# Altium footprint library Pattern No3d 20090609.PcbLib: 323 footprints (part 7 of 22)
Each footprint in its own frame and in the unit in brackets; x right, y up, seen from the top. Pads: shape width x height; smd on the part's side, far side on the other; paste and mask are expansions set on the pad; w line width, h text height; cw(c..) or ccw(c..) is an arc to the next point about the centre after c.
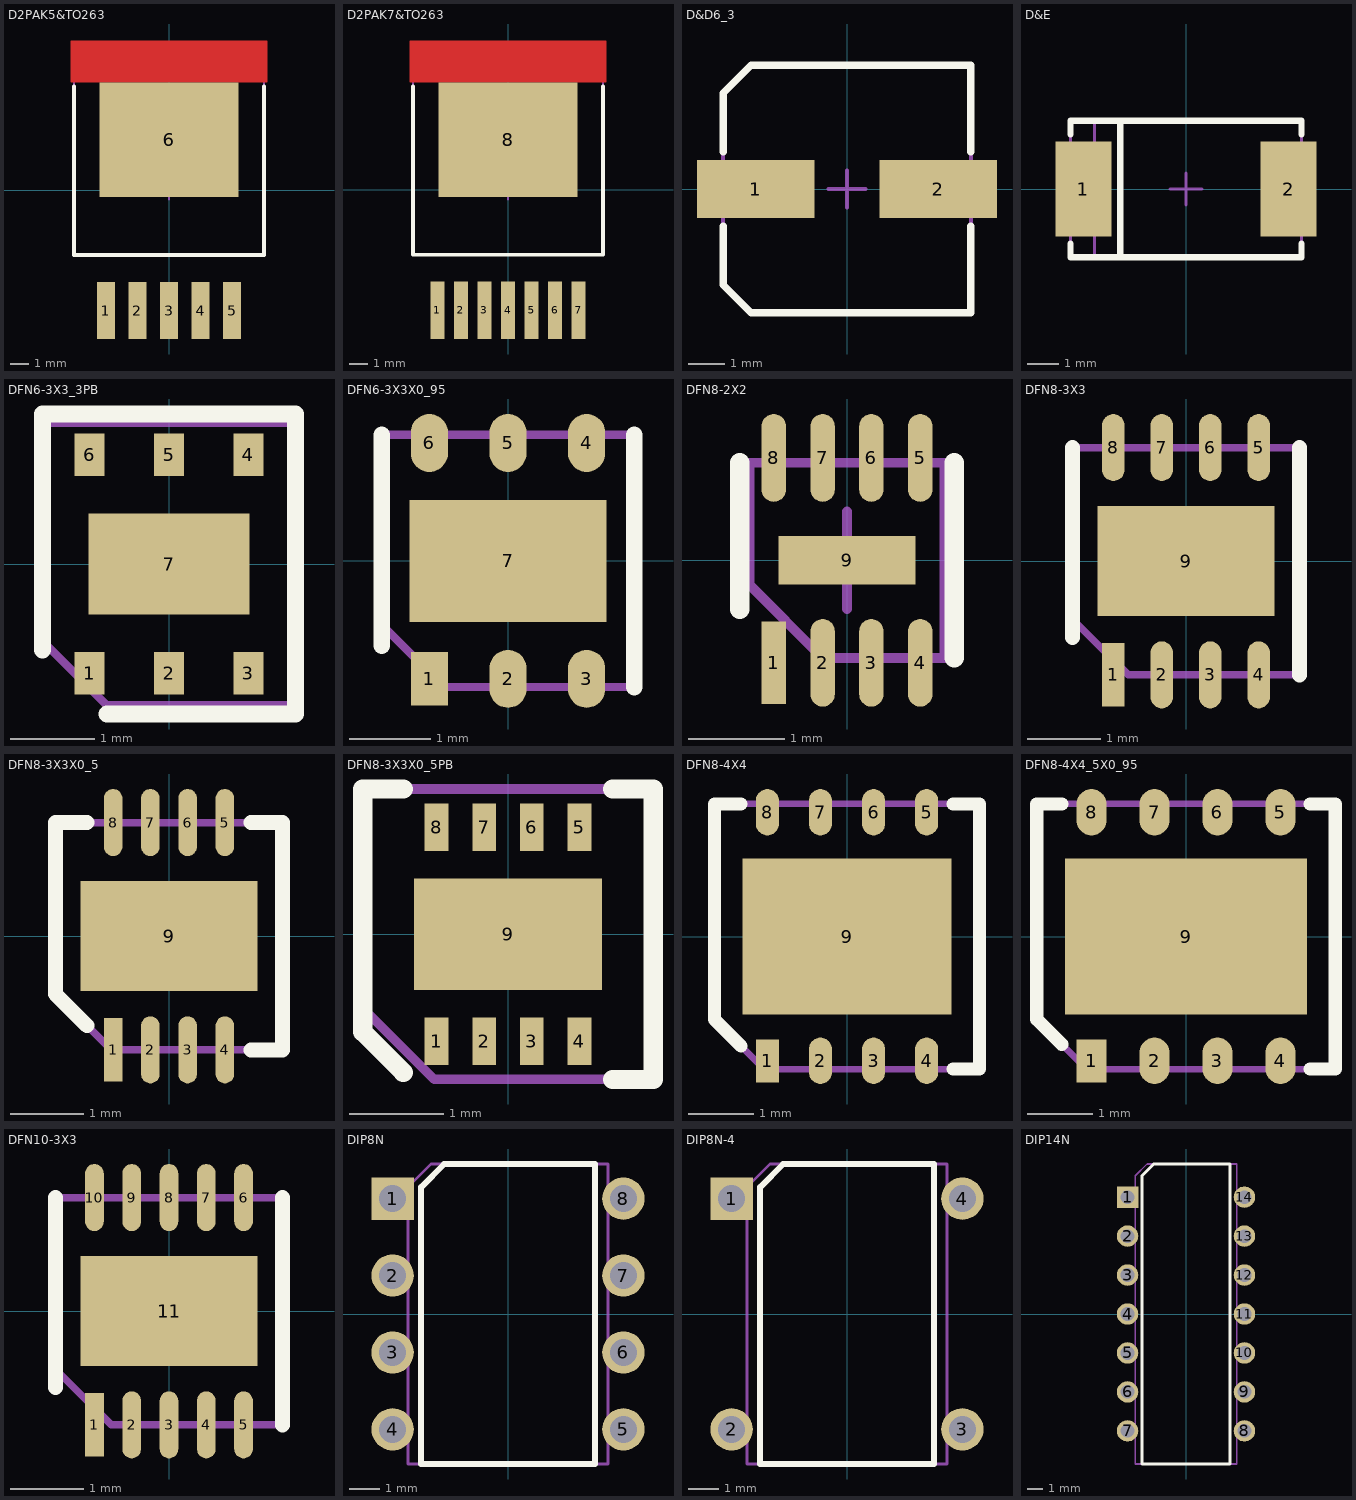
[diagram p6: the footprints below, top view; thin cyan lines are the x and y axes]

## D2PAK5&TO263 [mil] "http://www.nxp.com/acrobat_download/packages/SOT426.pdf"
pads (6):
  rect 39x121 smd paste-1000 mask+4: 1(-134,-256) 2(-67,-256) 3(0,-256) 4(67,-256) 5(134,-256)
  rect 296x244 smd paste-1000 mask-1000: 6(0,107)
Top Layer:
  region: 209,229 209,317 -209,317 -209,229
Top Overlay:
  lines w8: -202,220 -202,-138 202,-138 202,220
Top Paste:
  region: 116.5,-259.5 116.5,-314.5 151.5,-314.5 151.5,-259.5
  region: 116.5,-197.5 116.5,-252.5 151.5,-252.5 151.5,-197.5
  region: 49.5,-259.5 49.5,-314.5 84.5,-314.5 84.5,-259.5
  region: 49.5,-197.5 49.5,-252.5 84.5,-252.5 84.5,-197.5
  region: -84.5,-259.5 -84.5,-314.5 -49.5,-314.5 -49.5,-259.5
  region: -84.5,-197.5 -84.5,-252.5 -49.5,-252.5 -49.5,-197.5
  region: -151.5,-259.5 -151.5,-314.5 -116.5,-314.5 -116.5,-259.5
  region: -151.5,-197.5 -151.5,-252.5 -116.5,-252.5 -116.5,-197.5
  region: -17.5,-197.5 -17.5,-252.5 17.5,-252.5 17.5,-197.5
  region: -17.5,-259.5 -17.5,-314.5 17.5,-314.5 17.5,-259.5
  region: 135,231 135,315 75,315 75,231
  region: 65,231 65,315 5,315 5,231
  region: -5,231 -5,315 -65,315 -65,231
  region: -75,231 -75,315 -135,315 -135,231
  region: -145,231 -145,315 -205,315 -205,231
  region: 205,231 205,315 145,315 145,231
  region: -79,170 -143,170 -143,110 -79,110
  region: -5,170 -69,170 -69,110 -5,110
  region: 69,170 5,170 5,110 69,110
  region: 143,170 79,170 79,110 143,110
  region: 143,49 79,49 79,-11 143,-11
  region: 69,49 5,49 5,-11 69,-11
  region: -5,49 -69,49 -69,-11 -5,-11
  region: -79,49 -143,49 -143,-11 -79,-11
Top Solder:
  region: 152,-19 152,225 213,225 213,321 -213,321 -213,225 -152,225 -152,-19
Mechanical 1:
  lines w4: -202,-138 -202,240 202,240 202,-138 -202,-138
Mechanical 15:
  lines w4: -20,0 20,0 ; 0,-20 0,20

## D2PAK7&TO263 [mil] "http://www.nxp.com/acrobat_download/packages/SOT427.pdf"
pads (8):
  rect 30x122 smd paste-1000 mask+4: 1(-150,-256) 2(-100,-256) 3(-50,-256) 4(0,-256) 5(50,-256) 6(100,-256) 7(150,-256)
  rect 296x244 smd paste-1000 mask-1000: 8(0,107)
Top Layer:
  region: 209,229 209,317 -209,317 -209,229
Top Overlay:
  lines w8: -202,220 -202,-138 202,-138 202,220
Top Paste:
  region: 137,-259 137,-315 163,-315 163,-259
  region: 137,-197 137,-253 163,-253 163,-197
  region: 87,-259 87,-315 113,-315 113,-259
  region: 87,-197 87,-253 113,-253 113,-197
  region: 37,-259 37,-315 63,-315 63,-259
  region: 37,-197 37,-253 63,-253 63,-197
  region: -13,-259 -13,-315 13,-315 13,-259
  region: -13,-197 -13,-253 13,-253 13,-197
  region: -63,-259 -63,-315 -37,-315 -37,-259
  region: -63,-197 -63,-253 -37,-253 -37,-197
  region: -113,-259 -113,-315 -87,-315 -87,-259
  region: -113,-197 -113,-253 -87,-253 -87,-197
  region: -163,-197 -163,-253 -137,-253 -137,-197
  region: -79,49 -143,49 -143,-11 -79,-11
  region: -5,49 -69,49 -69,-11 -5,-11
  region: 69,49 5,49 5,-11 69,-11
  region: 143,49 79,49 79,-11 143,-11
  region: 143,170 79,170 79,110 143,110
  region: 69,170 5,170 5,110 69,110
  region: -5,170 -69,170 -69,110 -5,110
  region: -79,170 -143,170 -143,110 -79,110
  region: 205,231 205,315 145,315 145,231
  region: -145,231 -145,315 -205,315 -205,231
  region: -75,231 -75,315 -135,315 -135,231
  region: -5,231 -5,315 -65,315 -65,231
  region: 65,231 65,315 5,315 5,231
  region: 135,231 135,315 75,315 75,231
  region: -163,-259 -163,-315 -137,-315 -137,-259
Top Solder:
  region: 152,-19 152,225 213,225 213,321 -213,321 -213,225 -152,225 -152,-19
Mechanical 1:
  lines w4: -202,-138 -202,240 202,240 202,-138 -202,-138
Mechanical 15:
  lines w4: -20,0 20,0 ; 0,-20 0,20

## D&D6_3 [mil] "http://www.panasonic.com/industrial/components/pdf/pic_vs_series.pdf (Size D)"
pads (2):
  rect 126x62 smd mask+4: 1(-98,0) 2(98,0)
Top Overlay:
  lines w8: -133,-40 -133,-103 -103,-133 133,-133 133,-40 ; -133,40 -133,103 -103,133 133,133 133,40
Mechanical 1:
  lines w4: -133,-103 -133,103 -103,133 133,133 133,-133 -103,-133 -133,-103
Mechanical 15:
  lines w4: -20,0 20,0 ; 0,-20 0,20

## D&E [mil] "http://www.rohm.com/products/passive/ta_capacitor/pdf/catalog.pdf (Case D, E)"
pads (2):
  rect 70x118 smd mask+4: 1(-128,0) 2(128,0)
Top Overlay:
  lines w8: -144,-68 -144,-85 144,-85 144,-68 ; -144,68 -144,85 144,85 144,68 ; -82,-85 -82,85
Mechanical 1:
  lines w4: -114,-85 -114,85 ; -144,-85 -144,85 144,85 144,-85 -144,-85
Mechanical 15:
  lines w4: -20,0 20,0 ; 0,-20 0,20

## DFN6-3X3_3PB [mil] "http://www.national.com/packaging/mkt/lde06a.pdf"
pads (7):
  rect 14x20 smd mask-1000: 1(-37,-51)
  rect 14x20 smd mask+4: 2(0,-51) 3(37,-51) 4(37,51) 5(0,51) 6(-37,51)
  rect 75x47 smd paste-1000 mask+4: 7(0,0)
Top Overlay:
  lines w8: -59,-40 -59,70 59,70 59,-70 -29,-70
Top Paste:
  region: -17,-16 -17,-4 -33,-4 -33,-16
  region: -17,16 -33,16 -33,4 -17,4
  region: 8,-4 -8,-4 -8,-16 8,-16
  region: 33,-4 17,-4 17,-16 33,-16
  region: 33,16 17,16 17,4 33,4
  region: 8,16 -8,16 -8,4 8,4
Top Solder:
  region: -26,-65 -26,-37 -54,-37 -54,-65
Mechanical 1:
  lines w4: -59,-36 -29,-66 59,-66 59,66 -59,66 -59,-36
Mechanical 15:
  lines w4: -20,0 20,0 ; 0,-20 0,20

## DFN6-3X3X0_95 [mil] "http://www.national.com/packaging/mkt/sde06a.pdf"
pads (7):
  rect 18x26 smd mask-1000: 1(-38,-57)
  oval 18x28 smd mask+4: 2(0,-57) 3(38,-57) 4(38,57) 5(0,57) 6(-38,57)
  rect 95x59 smd paste-1000 mask-1000: 7(0,0)
Top Overlay:
  lines w8: -61,-41 -61,61 ; 61,-61 61,61
Top Paste:
  region: -6,-13 -6,13 -28,13 -28,-13
  region: 28,-13 28,13 6,13 6,-13
Top Solder:
  region: -25,-74 -25,-40 -51,-40 -51,-74
  region: 52,-32 52,32 -52,32 -52,-32
Mechanical 1:
  lines w4: -61,-31 -61,61 61,61 61,-61 -31,-61 -61,-31
Mechanical 15:
  lines w4: -20,0 20,0 ; 0,-20 0,20

## DFN8-2X2 [mil] "http://www.onsemi.com/pub/Collateral/506AA.PDF"
pads (9):
  rect 10x34 smd mask-1000: 1(-30,-42)
  oval 10x36 smd mask-1000: 2(-10,-42) 3(10,-42) 4(30,-42) 5(30,42) 6(10,42) 7(-10,42) 8(-30,42)
  rect 56x20 smd paste-1000 mask-1000: 9(0,0)
Top Overlay:
  lines w8: -44,-20 -44,40 ; 44,-40 44,40
Top Paste:
  region: 10,8 -10,8 -10,-8 10,-8
Top Solder:
  region: 32,-13 32,13 -32,13 -32,-13
  region: -23,-63 -23,-21 -39,-21 -39,-63
  lines w14: -10,-57 -10,-27 ; -10,27 -10,57 ; 10,-57 10,-27 ; 10,27 10,57
  lines w16: -31,28 -31,56 ; 31,-56 31,-28 ; 31,28 31,56
Mechanical 1:
  lines w4: -40,-10 -10,-40 40,-40 40,40 -40,40 -40,-10
Mechanical 15:
  lines w4: -20,0 20,0 ; 0,-20 0,20

## DFN8-3X3 [mil] "http://focus.ti.com/lit/ml/mpds118f/mpds118f.pdf"
pads (9):
  rect 12x34 smd mask-1000: 1(-39,-61)
  oval 12x36 smd mask-1000: 2(-13,-61) 3(13,-61) 4(39,-61) 5(39,61) 6(13,61) 7(-13,61) 8(-39,61)
  rect 95x59 smd paste-1000 mask-1000: 9(0,0)
Top Overlay:
  lines w8: -61,-41 -61,61 ; 61,-61 61,61
Top Paste:
  region: -6,-13 -6,13 -28,13 -28,-13
  region: 28,-13 28,13 6,13 6,-13
Top Solder:
  region: 52,-32 52,32 -52,32 -52,-32
  region: -29,-82 -29,-40 -49,-40 -49,-82
  lines w18: -39,48 -39,74 ; -13,-74 -13,-48 ; -13,48 -13,74 ; 13,-74 13,-48 ; 13,48 13,74 ; 39,-74 39,-48 ; 39,48 39,74
Mechanical 1:
  lines w4: -61,-31 -61,61 61,61 61,-61 -31,-61 -61,-31
Mechanical 15:
  lines w4: -20,0 20,0 ; 0,-20 0,20

## DFN8-3X3X0_5 [mil] "http://www.onsemi.com/pub/Collateral/506BJ.PDF"
pads (9):
  rect 10x34 smd mask-1000: 1(-30,-61)
  oval 10x36 smd mask-1000: 2(-10,-61) 3(10,-61) 4(30,-61) 5(30,61) 6(10,61) 7(-10,61) 8(-30,61)
  rect 95x59 smd paste-1000 mask-1000: 9(0,0)
Top Overlay:
  lines w8: -44,-48 -61,-31 -61,61 -44,61 ; 44,-61 61,-61 61,61 44,61
Top Paste:
  region: 28,-13 28,13 6,13 6,-13
  region: -6,-13 -6,13 -28,13 -28,-13
Top Solder:
  region: -23,-82 -23,-40 -39,-40 -39,-82
  region: 52,-32 52,32 -52,32 -52,-32
  lines w14: -10,-76 -10,-46 ; -10,46 -10,76 ; 10,-76 10,-46 ; 10,46 10,76
  lines w16: -31,47 -31,75 ; 31,-75 31,-47 ; 31,47 31,75
Mechanical 1:
  lines w4: -61,-31 -31,-61 61,-61 61,61 -61,61 -61,-31
Mechanical 15:
  lines w4: -20,0 20,0 ; 0,-20 0,20

## DFN8-3X3X0_5PB [mil] "http://www.national.com/packaging/mkt/lda08a.pdf"
pads (9):
  rect 10x20 smd mask-1000: 1(-30,-45) 2(-10,-45) 3(10,-45) 4(30,-45) 5(30,45) 6(10,45) 7(-10,45) 8(-30,45)
  rect 79x47 smd paste-1000 mask-1000: 9(0,0)
Top Overlay:
  lines w8: -44,-58 -61,-41 -61,61 -44,61 ; 44,-61 61,-61 61,61 44,61
Top Paste:
  region: 8,16 -8,16 -8,4 8,4
  region: 33,16 17,16 17,4 33,4
  region: 33,-4 17,-4 17,-16 33,-16
  region: 8,-4 -8,-4 -8,-16 8,-16
  region: -17,16 -33,16 -33,4 -17,4
  region: -17,-16 -17,-4 -33,-4 -33,-16
Top Solder:
  region: -17,59 -17,33 -3,33 -3,59
  region: 3,59 3,33 17,33 17,59
  region: 17,-59 17,-33 3,-33 3,-59
  region: -23,33 -23,59 -39,59 -39,33
  region: 39,33 39,59 23,59 23,33
  region: 44,-25 44,25 -44,25 -44,-25
  region: 39,-59 39,-33 23,-33 23,-59
  region: -3,-59 -3,-33 -17,-33 -17,-59
  region: -23,-65 -23,-33 -39,-33 -39,-65
Mechanical 1:
  lines w4: -61,-31 -31,-61 61,-61 61,61 -61,61 -61,-31
Mechanical 15:
  lines w4: -20,0 20,0 ; 0,-20 0,20

## DFN8-4X4 [mil] "http://www.onsemi.com/pub/Collateral/488AF.PDF"
pads (9):
  rect 14x26 smd mask-1000: 1(-48,-75)
  oval 14x28 smd mask+4: 2(-16,-75) 3(16,-75) 4(48,-75) 5(48,75) 6(16,75) 7(-16,75) 8(-48,75)
  rect 126x94 smd paste-1000 mask-1000: 9(0,0)
Top Overlay:
  lines w8: -64,-66 -80,-50 -80,80 -64,80 ; 64,-80 80,-80 80,80 64,80
Top Paste:
  region: -8,-22 -8,22 -36,22 -36,-22
  region: 36,-22 36,22 8,22 8,-22
Top Solder:
  region: -37,-92 -37,-58 -59,-58 -59,-92
  region: 67,-49 67,49 -67,49 -67,-49
Mechanical 1:
  lines w4: -80,-50 -50,-80 80,-80 80,80 -80,80 -80,-50
Mechanical 15:
  lines w4: -20,0 20,0 ; 0,-20 0,20

## DFN8-4X4_5X0_95 [mil] "http://www.ramtron.com/files/datasheets/FM24CL64ds_r3.3.pdf (8-pin TDFN)"
pads (9):
  rect 18x26 smd mask-1000: 1(-57,-75)
  oval 18x28 smd mask+4: 2(-19,-75) 3(19,-75) 4(57,-75) 5(57,75) 6(19,75) 7(-19,75) 8(-57,75)
  rect 146x94 smd paste-1000 mask-1000: 9(0,0)
Top Overlay:
  lines w8: -75,-65 -90,-50 -90,80 -75,80 ; 75,-80 90,-80 90,80 75,80
Top Paste:
  region: -23,6 -23,28 -45,28 -45,6
  region: 45,6 45,28 23,28 23,6
  region: 11,6 11,28 -11,28 -11,6
  region: 45,-28 45,-6 23,-6 23,-28
  region: -23,-28 -23,-6 -45,-6 -45,-28
  region: 11,-28 11,-6 -11,-6 -11,-28
Top Solder:
  region: -44,-92 -44,-58 -70,-58 -70,-92
  region: 77,-49 77,49 -77,49 -77,-49
Mechanical 1:
  lines w4: -90,-50 -60,-80 90,-80 90,80 -90,80 -90,-50
Mechanical 15:
  lines w4: -20,0 20,0 ; 0,-20 0,20

## DFN10-3X3 [mil] "http://www.nxp.com/acrobat_download/packages/SOT650-1.pdf"
pads (11):
  rect 10x34 smd mask-1000: 1(-40,-61)
  oval 10x36 smd mask-1000: 2(-20,-61) 3(0,-61) 4(20,-61) 5(40,-61) 6(40,61) 7(20,61) 8(0,61) 9(-20,61) 10(-40,61)
  rect 95x59 smd paste-1000 mask-1000: 11(0,0)
Top Overlay:
  lines w8: -61,-41 -61,61 ; 61,-61 61,61
Top Paste:
  region: 28,-13 28,13 6,13 6,-13
  region: -6,-13 -6,13 -28,13 -28,-13
Top Solder:
  region: 52,-32 52,32 -52,32 -52,-32
  region: -33,-82 -33,-40 -49,-40 -49,-82
  lines w14: -20,-76 -20,-46 ; -20,46 -20,76 ; 0,-76 0,-46 ; 0,46 0,76 ; 20,-76 20,-46 ; 20,46 20,76
  lines w16: -41,47 -41,75 ; 41,-75 41,-47 ; 41,47 41,75
Mechanical 1:
  lines w4: -61,-31 -31,-61 61,-61 61,61 -61,61 -61,-31
Mechanical 15:
  lines w4: -20,0 20,0 ; 0,-20 0,20

## DIP8N [mil] "http://www.nxp.com/acrobat_download/packages/SOT097-1.pdf"
pads (8):
  rect 55x55 hole 35 mask+4: 1(-150,150)
  round 55 hole 35 mask+4: 2(-150,50) 3(-150,-50) 4(-150,-150) 5(150,-150) 6(150,-50) 7(150,50) 8(150,150)
Top Overlay:
  lines w8: -113,-195 -113,165 -83,195 113,195 113,-195 -113,-195
Mechanical 1:
  lines w4: -130,-195 -130,165 -100,195 130,195 130,-195 -130,-195

## DIP8N-4 [mil] "http://www.microem.ru/pages/sg8002/katalog_epson/TQ012-38.pdf (DIP 8-pin)"
pads (4):
  rect 55x55 hole 35 mask+4: 1(-150,150)
  round 55 hole 35 mask+4: 2(-150,-150) 3(150,-150) 4(150,150)
Top Overlay:
  lines w8: -113,-195 -113,165 -83,195 113,195 113,-195 -113,-195
Mechanical 1:
  lines w4: -130,-195 -130,165 -100,195 130,195 130,-195 -130,-195

## DIP14N [mil] "http://www.nxp.com/acrobat_download/packages/SOT27-1.pdf"
pads (14):
  rect 55x55 hole 35 mask+4: 1(-150,300)
  round 55 hole 35 mask+4: 2(-150,200) 3(-150,100) 4(-150,0) 5(-150,-100) 6(-150,-200) 7(-150,-300) 8(150,-300) 9(150,-200) 10(150,-100) 11(150,0) 12(150,100) 13(150,200) 14(150,300)
Top Overlay:
  lines w8: -113,-385 -113,355 -83,385 113,385 113,-385 -113,-385
Mechanical 1:
  lines w4: -130,-385 -130,355 -100,385 130,385 130,-385 -130,-385